# EAGLE library part BPA05SB (library BPA05SB)
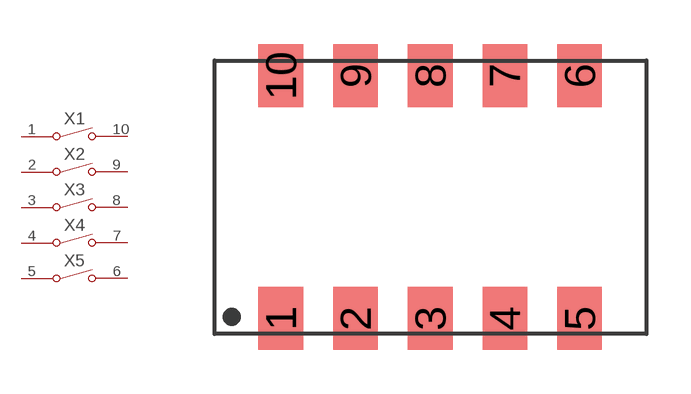
[diagram p0: symbol with the pads of BPA05SB; footprint BPA05SB]

Designator prefix X; gates 1=SWITCH 2=SWITCH 3=SWITCH 4=SWITCH 5=SWITCH

## BPA05SB (MFG: C&K; MPN: BPA05SB)  [BPA05SB]
1  1:I
2  2:I
3  3:I
4  4:I
5  5:I
6  5:O
7  4:O
8  3:O
9  2:O
10  1:O

## Footprint BPA05SB (pad centres in mm)
smd 1.52 x 2.15: 1 -6.37,-4.2; 2 -3.83,-4.2; 3 -1.29,-4.2; 4 1.25,-4.2; 5 3.79,-4.2; 6 3.79,4.06; 7 1.25,4.06; 8 -1.29,4.06; 9 -3.83,4.06; 10 -6.37,4.06